# EAGLE library part AVR_ATTINY85 (library tvbgone-2layer)
MICROCONTROLLER 8 Kbytes FLASH 512 bytes EEPROM 512 bytes RAM 4-channel 10 bit ADC USI
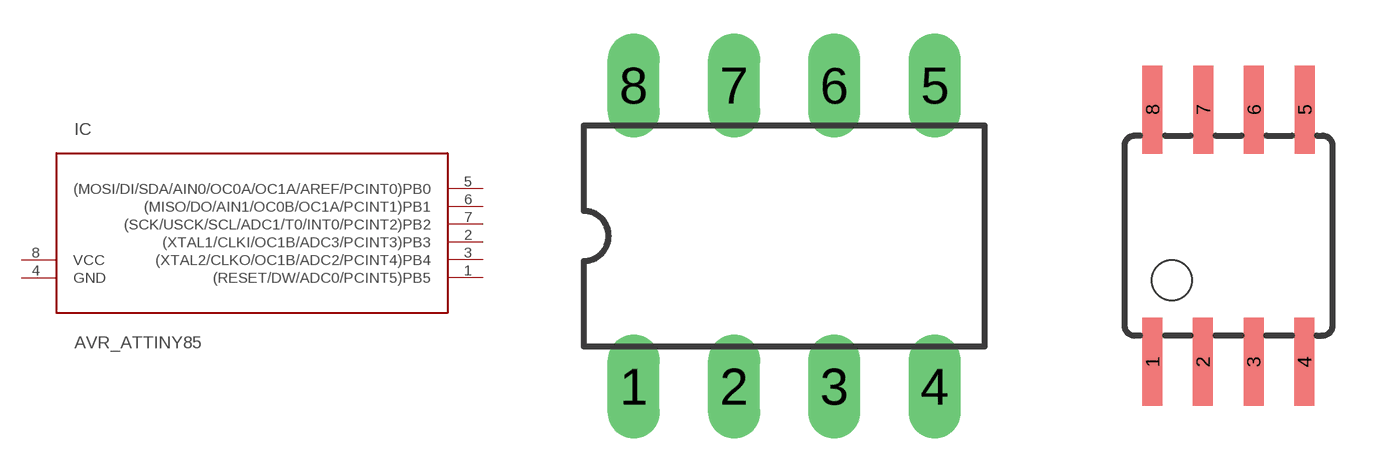
[diagram p1: symbol with the pads of AVR_DIL08; footprints AVR_DIL08, AVR_SOIC8]

Designator prefix IC

## AVR_ATTINY85P, AVR_ATTINY85-20P, AVR_ATTINY85V-10P  [AVR_DIL08]
1  (RESET/DW/ADC0/PCINT5)PB5
2  (XTAL1/CLKI/OC1B/ADC3/PCINT3)PB3
3  (XTAL2/CLKO/OC1B/ADC2/PCINT4)PB4
4  GND
5  (MOSI/DI/SDA/AIN0/OC0A/OC1A/AREF/PCINT0)PB0
6  (MISO/DO/AIN1/OC0B/OC1A/PCINT1)PB1
7  (SCK/USCK/SCL/ADC1/T0/INT0/PCINT2)PB2
8  VCC

## AVR_ATTINY85S, AVR_ATTINY85-20S, AVR_ATTINY85V-10S  [AVR_SOIC8]
Pads as for AVR_DIL08

## Footprint AVR_DIL08 (pad centres in mm)
Dual In Line
drill 0.813 long: 1 -3.81,-3.81; 2 -1.27,-3.81; 3 1.27,-3.81; 4 3.81,-3.81; 5 3.81,3.81; 6 1.27,3.81; 7 -1.27,3.81; 8 -3.81,3.81

## Footprint AVR_SOIC8 (pad centres in mm)
Wide Plastic Gull Wing Small Outline Package
smd 0.5 x 2.2: 1 -1.905,-3.154; 2 -0.645,-3.154; 3 0.625,-3.154; 4 1.895,-3.154; 5 1.905,3.154; 6 0.635,3.154; 7 -0.635,3.154; 8 -1.905,3.154